# Altium schematic symbol library 6437288-5.SchLib: 1 symbol
Pins are listed as number, name and electrical type; pins without a type are passive.

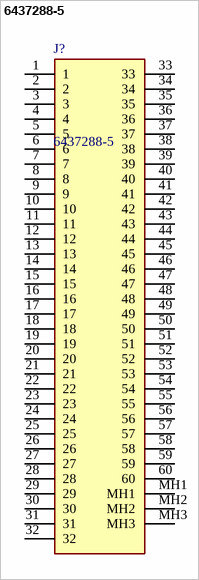
[diagram p0: symbol 6437288-5]

## 6437288-5
designator J?
Body Features: Primary Product Color Black | Configuration Features: Number of Signal Positions 60 | Number of Rows 4 | Number of Positions 60 | PCB Mount Orientation Horizontal | Number of Sections 2 | Contact Features: Contact Mating Area Plating Material Gold | Mating Pin Diameter .039 INCH | Mating Pin Diameter 1 MM | Contact Size 1mm | Contact Type Pin | Dimensions: Connector Width 78 MM | Connector Length 1.437 INCH | Profile Height from PCB 27.9 MM | Connector Width 3.071 INCH | Profile Height from P; Manufacturer_Name: TE Connectivity; Geometry.Height: 27.9mm; Mouser Part Number: 571-6437288-5; Mouser Price/Stock: https://www.mouser.co.uk/ProductDetail/TE-Connectivity/6437288-5?qs=%252BJ%252BJwDEtia05lDPtXdOuzw%3D%3D; Manufacturer_Part_Number: 6437288-5; Datasheet Link: https://www.te.com/commerce/DocumentDelivery/DDEController?Action=srchrtrv&DocNm=1-1773950-7&DocType=Data%20Sheet&DocLang=English&PartCntxt=6437288-5&DocFormat=pdf
footprint 64372885
pins: 1, 2, 3, 4, 5, 6, 7, 8, 9, 10, 11, 12, 13, 14, 15, 16, 17, 18, 19, 20, 21, 22, 23, 24, 25, 26, 27, 28, 29, 30, 31, 32, 33, 34, 35, 36, 37, 38, 39, 40, 41, 42, 43, 44, 45, 46, 47, 48, 49, 50, 51, 52, 53, 54, 55, 56, 57, 58, 59, 60, MH1, MH2, MH3